# EAGLE library part AD627 (library SparkFun-Sensors)
Hall-effect-based isolated linear current sensor PROTO: IC-13132
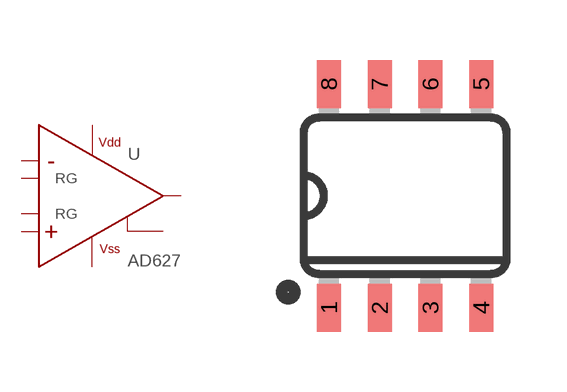
[diagram p44: symbol with the pads of SO08-TIGHT; footprint SO08-TIGHT]

Designator prefix U

## AD627SOIC (PROD_ID: IC-13132; VALUE: AD627)  [SO08-TIGHT]
1  RG
2  IN-
3  IN+
4  VS-
5  REF
6  OUTPUT
7  VS+
8  RG

## Footprint SO08-TIGHT (pad centres in mm)
smd 0.6 x 1.2: 1 -1.905,-2.8; 2 -0.635,-2.8; 3 0.635,-2.8; 4 1.905,-2.8; 5 1.905,2.8; 6 0.635,2.8; 7 -0.635,2.8; 8 -1.905,2.8